# Altium footprint library led.PCBLIB: 116 footprints (part 3 of 8)
Each footprint in its own frame and in the unit in brackets; x right, y up, seen from the top. Pads: shape width x height; smd on the part's side, far side on the other; paste and mask are expansions set on the pad; w line width, h text height; cw(c..) or ccw(c..) is an arc to the next point about the centre after c.
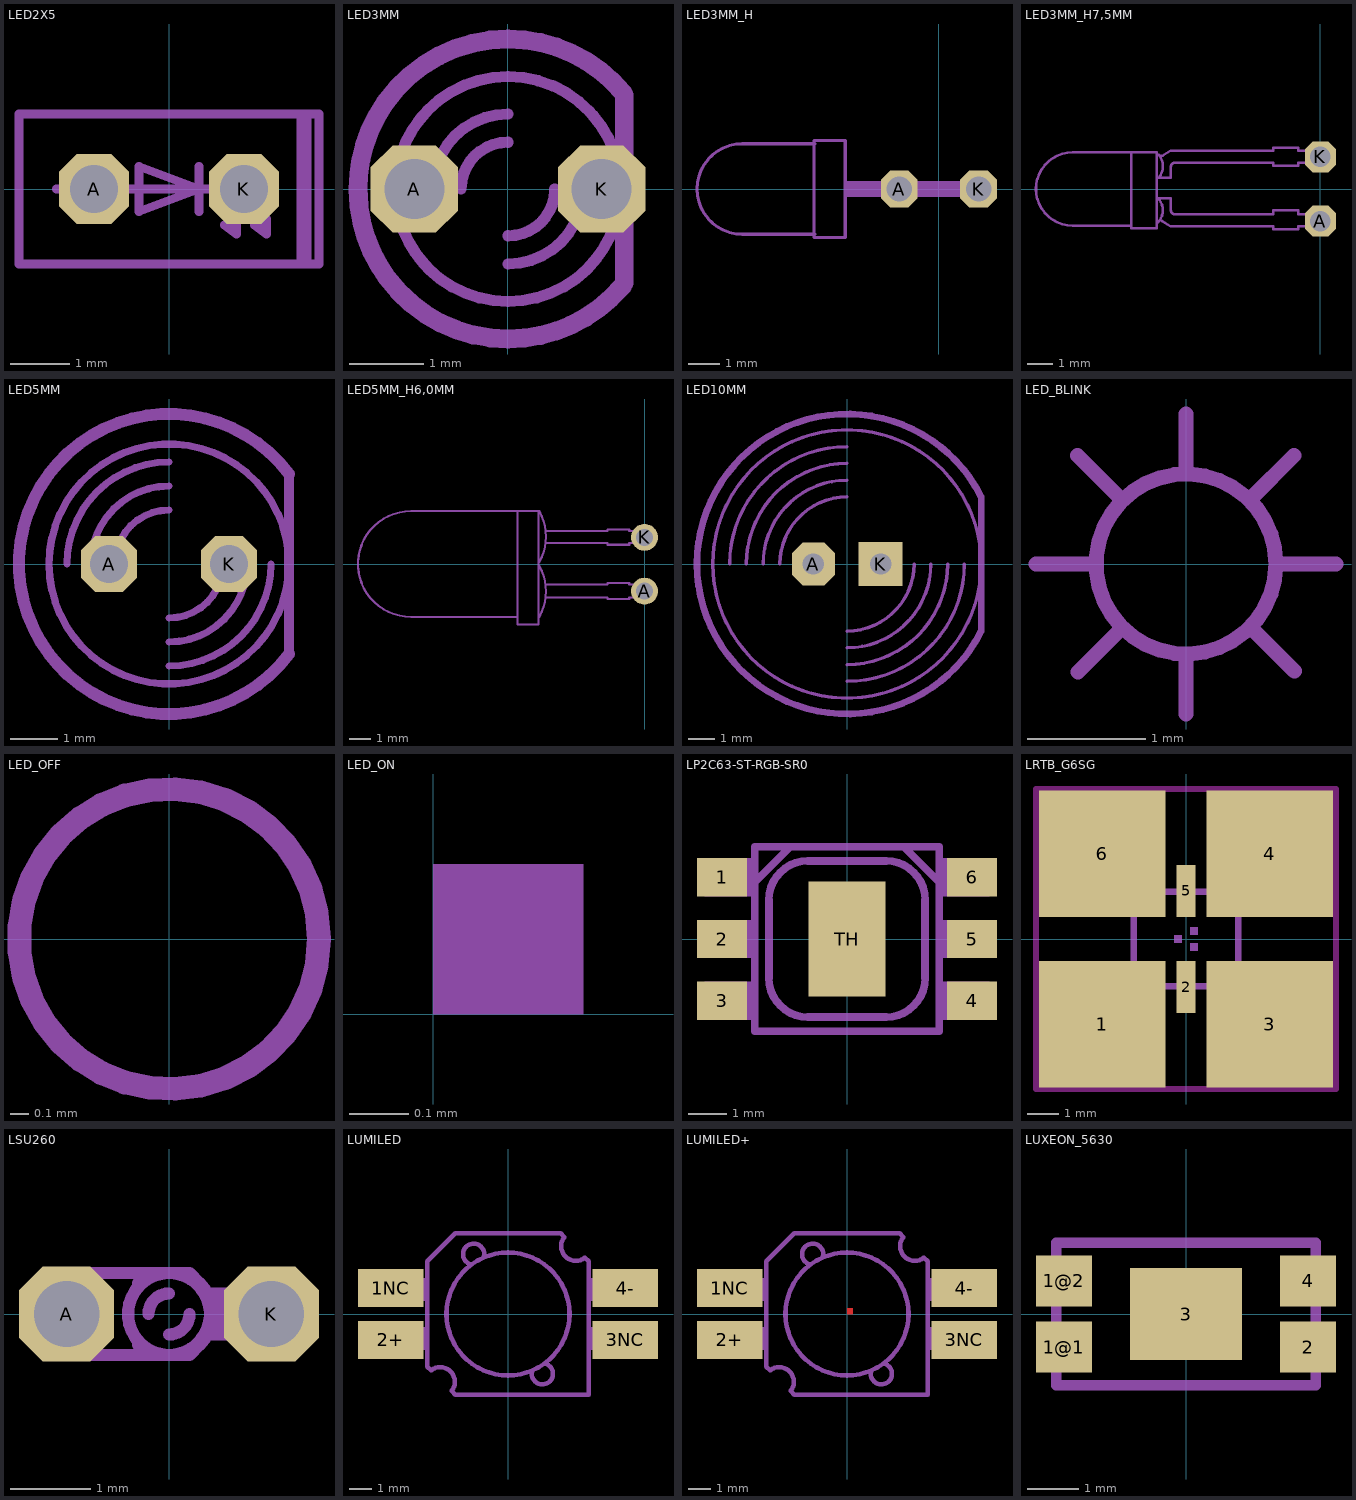
[diagram p2: the footprints below, top view; thin cyan lines are the x and y axes]

## LED2X5 [mil]
pads (2):
  oct 46.48x46.48 hole 32: A(-50,0) K(50,0)
Mechanical 2:
  rectangle: 85,-50 95,50
  lines w6: -100,-50 100,-50 100,50 -100,50 -100,-50
Mechanical 18:
  lines w6: -75,0 20,0 ; 20,-15 20,0 ; 20,15 20,0 ; 35,-10 45,-30 ; 55,-10 65,-30 ; 70,0 20,0 ; 20,0 -20,15 -20,-15 20,0 ; 45,-30 45,-20 37,-24 45,-30 ; 65,-30 65,-20 57,-24 65,-30

## LED3MM [mil]
pads (2):
  oct 46.48x46.48 hole 32: A(-50,0) K(50,0)
Mechanical 2:
  lines w6: -48,36 cw(c0,0) 0,60 cw(c-0.01,0) 48.82,34.87 ; -47.36,-36.83 ccw(c0.01,0) 0,-60 ccw(c-0.01,0) 47.36,-36.83
  lines w10: -70.59,37.65 cw(c0,0) 0,80 cw(c0.01,0) 61.46,51.22 ; -69.46,-39.69 ccw(c0,0) 0,-80 ccw(c0,0) 61.07,-51.68
Mechanical 18:
  lines w6: -46.09,38.41 ccw(c0,-0.01) -60,0 ccw(c0,-0.01) -44.85,-39.86 ; -40,0 cw(c0,0) 0,40 ; -25,0 cw(c0,0) 0,25 ; 0,-40 ccw(c0,0) 40,0 ; 0,-25 ccw(c0,0) 25,0 ; 45.56,39.05 cw(c0,0.01) 60,0 cw(c0,0.01) 46.09,-38.41
  lines w10: -70.44,37.93 ccw(c0,0.01) -80,0 ccw(c0,0) -68.13,-41.93 ; 62,-50 62,50

## LED3MM_H [mil]
pads (2):
  oct 46.48x46.48 hole 32: A(-50,0) K(50,0)
Mechanical 2:
  rectangle: -116.14,-9.84 -87.11,9.84
  rectangle: -18.21,-9.84 17.72,9.84
  lines w3.94: -156.4,-57.09 -157.48,-57.09 ; -156.4,57.09 -157.48,57.09 ; -157.48,-57.09 -157.48,57.09 ; -157.48,-57.09 -157.48,-61.02 -118.11,-61.02 -118.11,61.02 -157.48,61.02 -157.48,57.09 ; -157.48,-57.09 -247.93,-57.09 cw(c-247.93,0) -247.93,57.09 -157.48,57.09
Mechanical 18:
  rectangle: -116.14,-9.84 61.02,9.84

## LED3MM_H7,5MM [mil]
pads (2):
  oct 48.41x48.41 hole 32: A(0,-50) K(0,50)
Mechanical 2:
  lines w3.94: -294.19,-57.09 -385.73,-57.09 cw(c-385.73,0) -385.73,57.09 -294.19,57.09 ; -253.25,-51.97 ccw(c-271.99,-33.07) -253.25,-14.17 -232.78,-14.17 -232.78,-33.07 ccw(c-226.48,-33.07) -226.48,-39.37 -73.72,-39.37 -73.72,-33.07 -34.35,-33.07 -34.35,-39.37 ; -253.25,17.32 -232.78,17.32 -232.78,34.65 cw(c-226.49,34.65) -226.48,40.94 -73.72,40.94 -73.72,36.22 -34.35,36.22 -34.35,40.94 ; -251.67,17.32 ccw(c-274.5,35.43) -251.67,53.54 ; -250.1,51.97 -245.37,51.97 -232.78,59.84 -73.72,59.84 -73.72,64.57 -34.35,64.57 -34.35,59.84 ; -248.52,-48.82 -232.78,-58.27 -73.72,-58.27 -73.72,-62.99 -34.35,-62.99 -34.35,-58.27 ; -294.19,57.09 -294.19,-61.02 -254.82,-61.02 -254.82,57.09 -294.19,57.09
Mechanical 18:
  lines w3.94: -34.35,-58.27 8.17,-58.27 8.17,-39.37 -34.35,-39.37 ; -34.35,40.94 8.17,40.94 8.17,59.84 -34.35,59.84

## LED5MM [mil]
pads (2):
  oct 46.48x46.48 hole 32: A(-50,0) K(50,0)
Mechanical 2:
  circle w6: c0,0 r100
  lines w8: 100,-75 100,75
  lines w10: 100,-75 cw(c0,0) 100,75
Mechanical 18:
  lines w6: -85,0 cw(c0,0) 0,85 ; -65,0 cw(c0,0) 0,65 ; -45,0 cw(c0,0) 0,45 ; 0,-85 ccw(c0,0) 85,0 ; 0,-65 ccw(c0,0) 65,0 ; 0,-45 ccw(c0,0) 45,0

## LED5MM_H6,0MM [mil]
pads (2):
  round 50 hole 31.5: A(0,-50) K(0,50)
Mechanical 2:
  lines w3.94: -195.31,-97.67 ccw(c-282.46,-50.34) -195.31,-3.01 ; -195.31,3.94 ccw(c-282.47,51.27) -195.31,98.61 ; -182.36,-61.85 -69.09,-61.85 -69.09,-64.85 -28.52,-64.85 -28.52,-61.85 ; -181.84,61.79 -69.09,61.79 -69.09,64.8 -28.52,64.8 -28.52,61.79 ; -181.79,-37.8 -69.09,-37.8 -69.09,-34.8 -28.52,-34.8 -28.52,-37.8 ; -181.79,39.25 -69.09,39.25 -69.09,36.25 -28.52,36.25 -28.52,39.25 ; -235.88,-97.67 -434.24,-97.67 cw(c-434.24,0.47) -434.24,98.61 -235.88,98.61 ; -235.88,-97.67 -235.88,98.61 ; -235.88,-97.67 -235.88,-112.2 -196.81,-112.2 -196.81,98.61 -235.88,98.61
Mechanical 18:
  lines w3.94: -28.52,-61.85 9.84,-61.85 9.84,-37.8 -28.52,-37.8 ; -28.52,39.25 9.84,39.25 9.84,61.79 -28.52,61.79

## LED10MM [mil]
pads (2):
  oct 63.9x63.9 hole 32: A(-50,0)
  rect 66x66 hole 32: K(50,0)
Mechanical 2:
  circle w5: c0,0 r200
  lines w5: -175,0 cw(c0,0) 0,175 ; -150,0 cw(c0,0) 0,150 ; -125,0 cw(c0,0) 0,125 ; -100,0 cw(c0,0) 0,100 ; 0,-175 ccw(c0,0) 175,0 ; 0,-150 ccw(c0,0) 150,0 ; 0,-125 ccw(c0,0) 125,0 ; 0,-100 ccw(c0,0) 100,0
  lines w10: 200,-100 cw(c0,0) 200,100 200,-100

## LED_BLINK [mil]
Mechanical 2:
  circle w5: c0,0 r30
  lines w5: -50,0 -30,0 ; -36.24,36.24 -22.1,22.1 ; -36.07,-36.07 -21.93,-21.93 ; 0,-50 0,-30 ; 0,30 0,50 ; 21.81,21.98 35.95,36.12 ; 21.98,-21.57 36.12,-35.7 ; 30,0 50,0

## LED_OFF [mil]
Mechanical 2:
  circle w5: c0,0 r31.62

## LED_ON [mil]
Mechanical 2:
  region: 0,0 10,0 10,10 0,10

## LP2C63-ST-RGB-SR0 [mm]
pads (7):
  rect 1.3x1 smd: 1(-3.25,1.6) 2(-3.25,0) 3(-3.25,-1.6) 4(3.25,-1.6) 5(3.25,0) 6(3.25,1.6)
  rect 2x3 smd: TH(0,0)
Mechanical 2:
  lines w0.203: -2.375,1.5 -1.5,2.375 ; 1.5,2.375 2.375,1.5 ; -2.4,-2.4 2.4,-2.4 2.4,2.4 -2.4,2.4 -2.4,-2.4 ; -2.032,-1.016 -2.032,1.016 cw(c-1.016,1.016) -1.016,2.032 1.016,2.032 cw(c1.016,1.016) 2.032,1.016 2.032,-1.016 cw(c1.016,-1.016) 1.016,-2.032 -1.016,-2.032 cw(c-1.016,-1.016) -2.032,-1.016
Mechanical 18:
  rectangle: -3.7,-0.5 -2.5,0.5
  rectangle: -3.7,1.1 -2.5,2.1
  rectangle: -3.7,-2.1 -2.5,-1.1
  region: 3.7,0.5 2.5,0.5 2.5,-0.5 3.7,-0.5
  region: 3.7,-1.1 2.5,-1.1 2.5,-2.1 3.7,-2.1
  region: 3.7,2.1 2.5,2.1 2.5,1.1 3.7,1.1

## LRTB_G6SG [mm]
pads (6):
  rect 4x4 smd paste-2 mask-2: 1(-2.65,-2.7) 3(2.65,-2.7) 4(2.65,2.7) 6(-2.65,2.7)
  rect 0.6x1.65 smd paste-0.825 mask-0.825: 2(0,-1.525) 5(0,1.525)
Top Paste:
  rectangle: -1.4,-2.3 -0.7,-0.75
  rectangle: -0.25,-2.3 0.25,-0.75
  rectangle: 0.7,-2.3 1.4,-0.75
  region: 1.4,2.3 0.7,2.3 0.7,0.75 1.4,0.75
  region: 0.25,2.3 -0.25,2.3 -0.25,0.75 0.25,0.75
  region: -0.7,2.3 -1.4,2.3 -1.4,0.75 -0.7,0.75
Top Solder:
  rectangle: -1.45,-2.35 -0.65,-0.7
  rectangle: -0.3,-2.35 0.3,-0.7
  rectangle: 0.65,-2.35 1.45,-0.7
  region: 1.45,2.35 0.65,2.35 0.65,0.7 1.45,0.7
  region: 0.3,2.35 -0.3,2.35 -0.3,0.7 0.3,0.7
  region: -0.65,2.35 -1.45,2.35 -1.45,0.7 -0.65,0.7
Keep-Out Layer:
  lines w0.203: -4.75,-4.75 4.75,-4.75 4.75,4.75 -4.75,4.75 -4.75,-4.75
Mechanical 2:
  rectangle: -0.375,-0.125 -0.125,0.125
  rectangle: 0.125,-0.375 0.375,-0.125
  rectangle: 0.125,0.125 0.375,0.375
Mechanical 18:
  lines w0.203: -1.65,-0.75 -1.65,-1.5 -0.9,-1.5 ; -1.65,-0.75 -1.65,1.5 1.65,1.5 1.65,-1.5 -0.9,-1.5 ; -1.65,-0.75 -0.9,-1.5

## LSU260 [mil]
pads (2):
  oct 46.48x46.48 hole 32: A(-50,0) K(50,0)
Mechanical 2:
  lines w6: -15,-15 -10,-20 10,-20 15,-15 ccw(c0,0) 15,15 10,20 -10,20 -15,15 ; -10,0 cw(c0,0) 0,10 ; 0,-10 ccw(c0,0) 10,0
Mechanical 18:
  circle w6: c0,0 r20
  rectangle: -55,-10 -45,10
  rectangle: 20,-10 55,10
  lines w6: 0,-20 -45,-20 -45,-10 ; 0,20 -45,20 -45,10 ; 20,-10 55,-10 55,10 20,10 ; -45,-10 -55,-10 -55,10 -45,10 ; -45,-10 -45,10

## LUMILED [mil]
pads (4):
  rect 114.17x66.93 smd: 1NC(-204.72,45.28) 2+(-204.72,-45.28) 3NC(204.72,-45.28) 4-(204.72,45.28)
Top Paste:
  region: 0,0 10,0 10,10 0,10
Top Solder:
  region: 0,0 10,0 10,10 0,10
Mechanical 2:
  lines w8: -67.91,87.6 cw(c-60.01,104.33) -41.83,100.89 ; 41.83,-100.89 ccw(c60.01,-104.33) 67.91,-87.6 ; -140.75,-92.03 -134.35,-98.43 cw(c-118.37,-118.37) -98.43,-134.35 -92.03,-140.75 140.75,-140.75 140.75,92.03 134.35,98.43 cw(c118.37,118.37) 98.43,134.35 92.03,140.75 -92.03,140.75 -140.75,92.03 -140.75,-92.03
Mechanical 18:
  circle w8: c0,0 r107.28
  rectangle: -235.24,22.64 -142.72,62.99
  rectangle: -235.24,-62.99 -142.72,-22.64
  region: 235.24,-22.64 142.72,-22.64 142.72,-62.99 235.24,-62.99
  region: 235.24,62.99 142.72,62.99 142.72,22.64 235.24,22.64

## LUMILED+ [mil]
pads (4):
  rect 114.17x66.93 smd: 1NC(-204.72,45.28) 2+(-204.72,-45.28) 3NC(204.72,-45.28) 4-(204.72,45.28)
Top Layer:
  region: 0,0 10,0 10,10 0,10
Top Paste:
  region: 0,0 10,0 10,10 0,10
Top Solder:
  region: 0,0 10,0 10,10 0,10
Mechanical 2:
  lines w8: -67.91,87.6 cw(c-60.01,104.33) -41.83,100.89 ; 41.83,-100.89 ccw(c60.01,-104.33) 67.91,-87.6 ; -140.75,-92.03 -134.35,-98.43 cw(c-118.37,-118.37) -98.43,-134.35 -92.03,-140.75 140.75,-140.75 140.75,92.03 134.35,98.43 cw(c118.37,118.37) 98.43,134.35 92.03,140.75 -92.03,140.75 -140.75,92.03 -140.75,-92.03
Mechanical 18:
  circle w8: c0,0 r107.28
  rectangle: -235.24,22.64 -142.72,62.99
  rectangle: -235.24,-62.99 -142.72,-22.64
  region: 235.24,-22.64 142.72,-22.64 142.72,-62.99 235.24,-62.99
  region: 235.24,62.99 142.72,62.99 142.72,22.64 235.24,22.64

## LUXEON_5630 [mm]
pads (5):
  rect 1.1x1 smd: 1@1(-2.4,-0.65) 1@2(-2.4,0.65) 2(2.4,-0.65) 4(2.4,0.65)
  rect 2.2x1.8 smd: 3(0,0)
Mechanical 2:
  region: 0,0 0.254,0 0.254,0.254 0,0.254
  lines w0.203: -2.55,-1.4 2.55,-1.4 ; -2.55,1.4 2.55,1.4
Mechanical 18:
  rectangle: 2.55,-0.9 2.8,-0.4
  rectangle: 2.55,0.4 2.8,0.9
  rectangle: -2.8,0.4 -2.55,0.9
  rectangle: -2.8,-0.9 -2.55,-0.4
  rectangle: -0.813,-0.638 0.813,0.638
  region: 0,0 0.254,0 0.254,0.254 0,0.254
  lines w0.203: -2.55,-1.4 -2.55,1.4 ; 2.55,-1.4 2.55,1.4